# Altium footprint library TerminalBlock_WAGO.PcbLib: 170 footprints (part 1 of 11)
Each footprint in its own frame and in the unit in brackets; x right, y up, seen from the top. Pads: shape width x height; smd on the part's side, far side on the other; paste and mask are expansions set on the pad; w line width, h text height; cw(c..) or ccw(c..) is an arc to the next point about the centre after c.
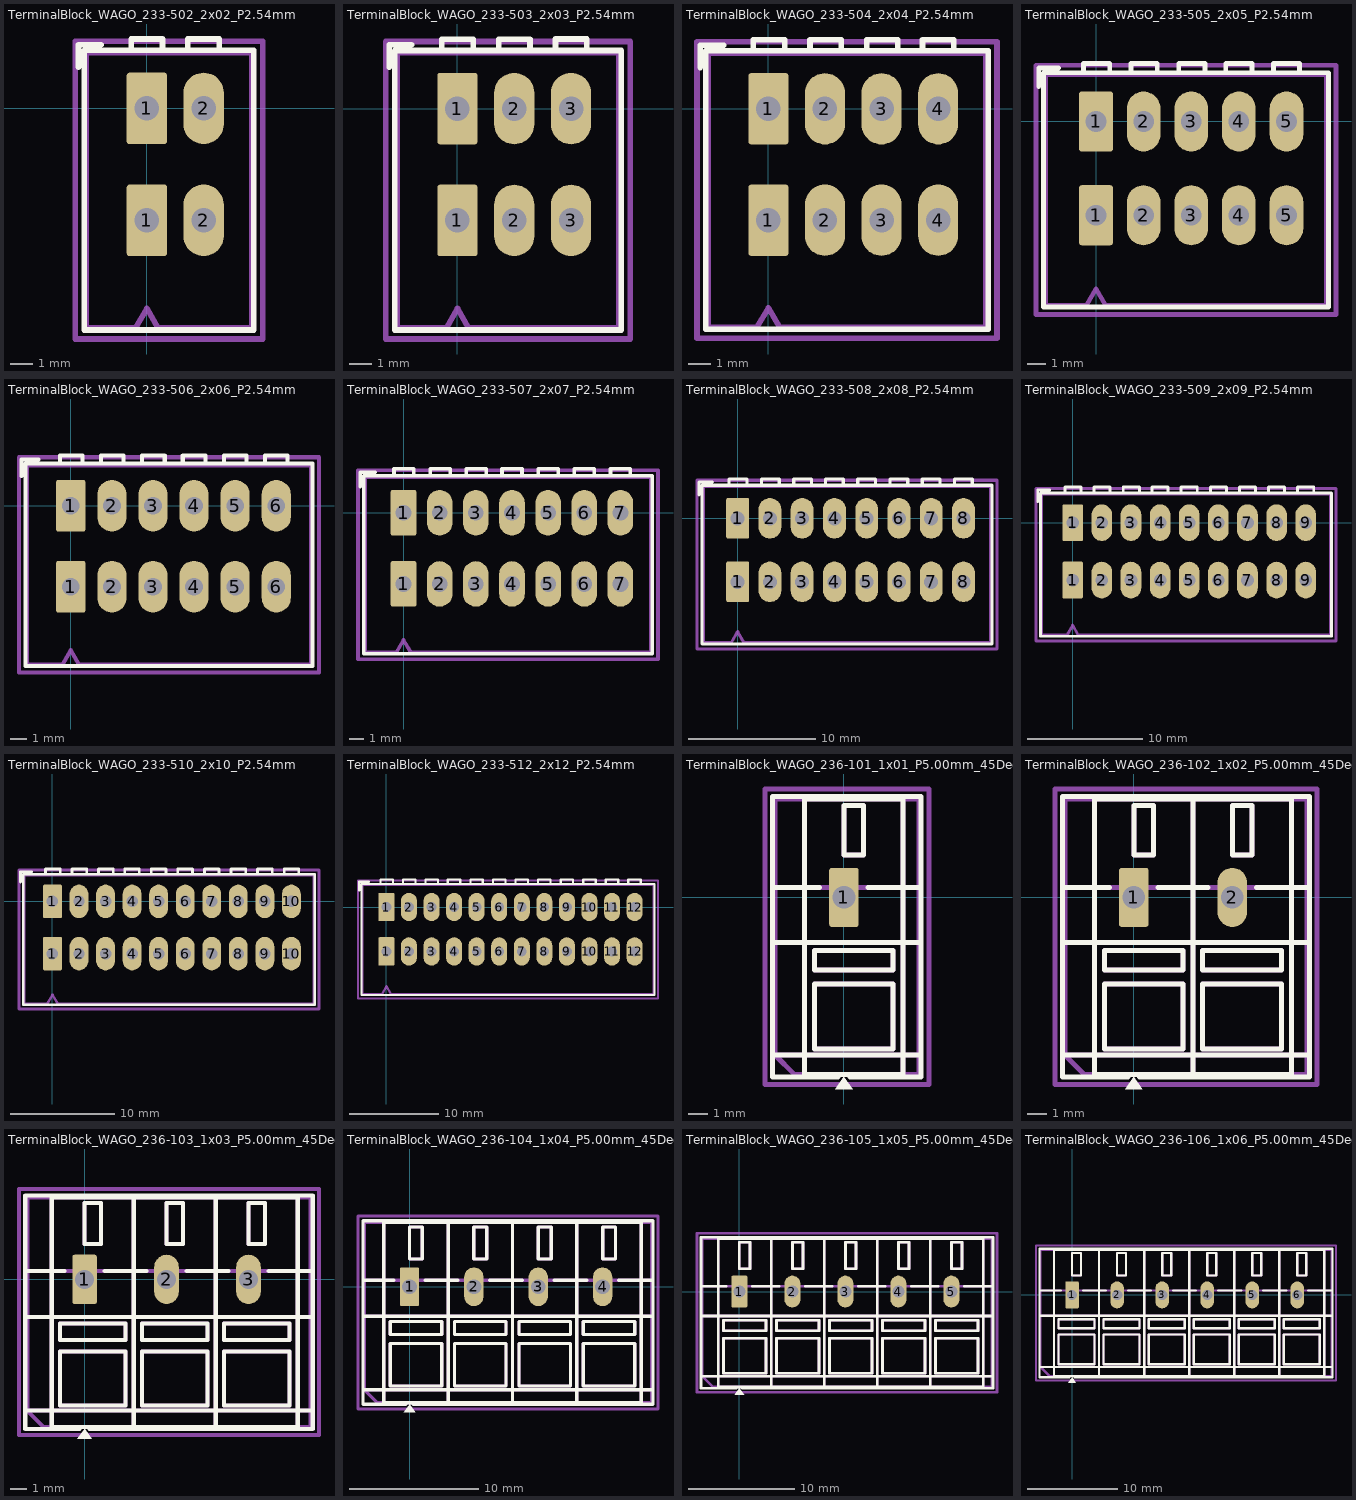
[diagram p0: the footprints below, top view; thin cyan lines are the x and y axes]

## TerminalBlock_WAGO_233-502_2x02_P2.54mm [mm]
pads (4):
  rrect14% 1.8x3.2 hole 1.1: 1(0,-5) 1(0,0)
  rrect100% 1.8x3.2 hole 1.1: 2(2.54,-5) 2(2.54,0)
F.SilkS:
  lines w0.254: -3.05,1.85 -3.05,2.85 -2.05,2.85 ; -2.8,-9.9 -2.8,2.6 4.78,2.6 4.78,-9.9 -2.8,-9.9 ; -0.7,2.6 -0.7,3.1 0.7,3.1 0.7,2.6 -0.7,2.6 ; 1.83,2.6 1.83,3.1 3.23,3.1 3.23,2.6 1.83,2.6
F.Fab:
  lines w0.254: -2.7,-9.8 -2.7,2.5 4.68,2.5 4.68,-9.8 0.5,-9.8 0,-8.93 -0.5,-9.8 -2.7,-9.8
  text "'.Designator'" at -3.147,-3.45 h1
F.CrtYd:
  lines w0.254: -3.2,-10.3 -3.2,3 5.18,3 5.18,-10.3 -3.2,-10.3

## TerminalBlock_WAGO_233-503_2x03_P2.54mm [mm]
pads (6):
  rrect14% 1.8x3.2 hole 1.1: 1(0,-5) 1(0,0)
  rrect100% 1.8x3.2 hole 1.1: 2(2.54,-5) 2(2.54,0) 3(5.08,-5) 3(5.08,0)
F.SilkS:
  lines w0.254: -3.05,1.85 -3.05,2.85 -2.05,2.85 ; -2.8,-9.9 -2.8,2.6 7.32,2.6 7.32,-9.9 -2.8,-9.9 ; -0.7,2.6 -0.7,3.1 0.7,3.1 0.7,2.6 -0.7,2.6 ; 1.84,2.6 1.84,3.1 3.24,3.1 3.24,2.6 1.84,2.6 ; 4.38,2.61 4.38,3.11 5.78,3.11 5.78,2.61 4.38,2.61
F.Fab:
  lines w0.254: -2.7,-9.8 -2.7,2.5 7.22,2.5 7.22,-9.8 0.5,-9.8 0,-8.93 -0.5,-9.8 -2.7,-9.8
  text "'.Designator'" at -2.197,-3.47 h1
F.CrtYd:
  lines w0.254: -3.2,-10.3 -3.2,3 7.72,3 7.72,-10.3 -3.2,-10.3

## TerminalBlock_WAGO_233-504_2x04_P2.54mm [mm]
pads (8):
  rrect14% 1.8x3.2 hole 1.1: 1(0,-5) 1(0,0)
  rrect100% 1.8x3.2 hole 1.1: 2(2.54,-5) 2(2.54,0) 3(5.08,-5) 3(5.08,0) 4(7.62,-5) 4(7.62,0)
F.SilkS:
  lines w0.254: -3.05,1.85 -3.05,2.85 -2,2.85 ; -2.8,-9.9 -2.8,2.6 9.86,2.6 9.86,-9.9 -2.8,-9.9 ; -0.67,2.6 -0.67,3.1 0.73,3.1 0.73,2.6 -0.67,2.6 ; 1.87,2.6 1.87,3.1 3.27,3.1 3.27,2.6 1.87,2.6 ; 4.41,2.6 4.41,3.1 5.81,3.1 5.81,2.6 4.41,2.6 ; 6.92,2.599 6.92,3.099 8.32,3.099 8.32,2.599 6.92,2.599
F.Fab:
  lines w0.254: -2.7,-9.8 -2.7,2.5 9.76,2.5 9.76,-9.8 0.5,-9.8 0,-8.93 -0.5,-9.8 -2.7,-9.8
  text "'.Designator'" at -0.517,-3.34 h1
F.CrtYd:
  lines w0.254: -3.2,-10.3 -3.2,3 10.26,3 10.26,-10.3 -3.2,-10.3

## TerminalBlock_WAGO_233-505_2x05_P2.54mm [mm]
pads (10):
  rrect14% 1.8x3.2 hole 1.1: 1(0,-5) 1(0,0)
  rrect100% 1.8x3.2 hole 1.1: 2(2.54,-5) 2(2.54,0) 3(5.08,-5) 3(5.08,0) 4(7.62,-5) 4(7.62,0) 5(10.16,-5) 5(10.16,0)
F.SilkS:
  lines w0.254: -3.05,1.85 -3.05,2.85 -2,2.85 ; -2.8,-9.9 -2.8,2.6 12.4,2.6 12.4,-9.9 -2.8,-9.9 ; -0.67,2.6 -0.67,3.1 0.73,3.1 0.73,2.6 -0.67,2.6 ; 1.87,2.6 1.87,3.1 3.27,3.1 3.27,2.6 1.87,2.6 ; 4.41,2.6 4.41,3.1 5.81,3.1 5.81,2.6 4.41,2.6 ; 6.92,2.6 6.92,3.1 8.32,3.1 8.32,2.6 6.92,2.6 ; 9.46,2.6 9.46,3.1 10.86,3.1 10.86,2.6 9.46,2.6
F.Fab:
  lines w0.254: -2.7,-9.8 -2.7,2.5 12.3,2.5 12.3,-9.8 0.5,-9.8 0,-8.93 -0.5,-9.8 -2.7,-9.8
  text "'.Designator'" at -0.517,-3.34 h1
F.CrtYd:
  lines w0.254: -3.2,-10.3 -3.2,3 12.8,3 12.8,-10.3 -3.2,-10.3

## TerminalBlock_WAGO_233-506_2x06_P2.54mm [mm]
pads (12):
  rrect14% 1.8x3.2 hole 1.1: 1(0,-5) 1(0,0)
  rrect100% 1.8x3.2 hole 1.1: 2(2.54,-5) 2(2.54,0) 3(5.08,-5) 3(5.08,0) 4(7.62,-5) 4(7.62,0) 5(10.16,-5) 5(10.16,0) 6(12.7,-5) 6(12.7,0)
F.SilkS:
  lines w0.254: -3.05,1.85 -3.05,2.85 -2,2.85 ; -2.8,-9.9 -2.8,2.6 14.94,2.6 14.94,-9.9 -2.8,-9.9 ; -0.67,2.6 -0.67,3.1 0.73,3.1 0.73,2.6 -0.67,2.6 ; 1.87,2.6 1.87,3.1 3.27,3.1 3.27,2.6 1.87,2.6 ; 4.41,2.6 4.41,3.1 5.81,3.1 5.81,2.6 4.41,2.6 ; 6.92,2.6 6.92,3.1 8.32,3.1 8.32,2.6 6.92,2.6 ; 9.46,2.601 9.46,3.101 10.86,3.101 10.86,2.601 9.46,2.601 ; 12,2.601 12,3.101 13.4,3.101 13.4,2.601 12,2.601
F.Fab:
  lines w0.254: -2.7,-9.8 -2.7,2.5 14.84,2.5 14.84,-9.8 0.5,-9.8 0,-8.93 -0.5,-9.8 -2.7,-9.8
  text "'.Designator'" at -0.517,-3.34 h1
F.CrtYd:
  lines w0.254: -3.2,-10.3 -3.2,3 15.34,3 15.34,-10.3 -3.2,-10.3

## TerminalBlock_WAGO_233-507_2x07_P2.54mm [mm]
pads (14):
  rrect14% 1.8x3.2 hole 1.1: 1(0,-5) 1(0,0)
  rrect100% 1.8x3.2 hole 1.1: 2(2.54,-5) 2(2.54,0) 3(5.08,-5) 3(5.08,0) 4(7.62,-5) 4(7.62,0) 5(10.16,-5) 5(10.16,0) 6(12.7,-5) 6(12.7,0) 7(15.24,-5) 7(15.24,0)
F.SilkS:
  lines w0.254: -3.05,1.85 -3.05,2.85 -2,2.85 ; -2.8,-9.9 -2.8,2.6 17.48,2.6 17.48,-9.9 -2.8,-9.9 ; -0.67,2.6 -0.67,3.1 0.73,3.1 0.73,2.6 -0.67,2.6 ; 1.87,2.6 1.87,3.1 3.27,3.1 3.27,2.6 1.87,2.6 ; 4.41,2.6 4.41,3.1 5.81,3.1 5.81,2.6 4.41,2.6 ; 6.92,2.6 6.92,3.1 8.32,3.1 8.32,2.6 6.92,2.6 ; 9.46,2.601 9.46,3.101 10.86,3.101 10.86,2.601 9.46,2.601 ; 12,2.601 12,3.101 13.4,3.101 13.4,2.601 12,2.601 ; 14.54,2.6 14.54,3.1 15.94,3.1 15.94,2.6 14.54,2.6
F.Fab:
  lines w0.254: -2.7,-9.8 -2.7,2.5 17.38,2.5 17.38,-9.8 0.5,-9.8 0,-8.93 -0.5,-9.8 -2.7,-9.8
  text "'.Designator'" at -0.517,-3.34 h1
F.CrtYd:
  lines w0.254: -3.2,-10.3 -3.2,3 17.88,3 17.88,-10.3 -3.2,-10.3

## TerminalBlock_WAGO_233-508_2x08_P2.54mm [mm]
pads (16):
  rrect14% 1.8x3.2 hole 1.1: 1(0,-5) 1(0,0)
  rrect100% 1.8x3.2 hole 1.1: 2(2.54,-5) 2(2.54,0) 3(5.08,-5) 3(5.08,0) 4(7.62,-5) 4(7.62,0) 5(10.16,-5) 5(10.16,0) 6(12.7,-5) 6(12.7,0) 7(15.24,-5) 7(15.24,0) 8(17.78,-5) 8(17.78,0)
F.SilkS:
  lines w0.254: -3.05,1.85 -3.05,2.85 -2,2.85 ; -2.8,-9.9 -2.8,2.6 20.02,2.6 20.02,-9.9 -2.8,-9.9 ; -0.67,2.6 -0.67,3.1 0.73,3.1 0.73,2.6 -0.67,2.6 ; 1.87,2.6 1.87,3.1 3.27,3.1 3.27,2.6 1.87,2.6 ; 4.41,2.6 4.41,3.1 5.81,3.1 5.81,2.6 4.41,2.6 ; 6.92,2.6 6.92,3.1 8.32,3.1 8.32,2.6 6.92,2.6 ; 9.46,2.601 9.46,3.101 10.86,3.101 10.86,2.601 9.46,2.601 ; 12,2.601 12,3.101 13.4,3.101 13.4,2.601 12,2.601 ; 14.54,2.6 14.54,3.1 15.94,3.1 15.94,2.6 14.54,2.6 ; 17.08,2.6 17.08,3.1 18.48,3.1 18.48,2.6 17.08,2.6
F.Fab:
  lines w0.254: -2.7,-9.8 -2.7,2.5 19.92,2.5 19.92,-9.8 0.5,-9.8 0,-8.93 -0.5,-9.8 -2.7,-9.8
  text "'.Designator'" at -0.517,-3.34 h1
F.CrtYd:
  lines w0.254: -3.2,-10.3 -3.2,3 20.42,3 20.42,-10.3 -3.2,-10.3

## TerminalBlock_WAGO_233-509_2x09_P2.54mm [mm]
pads (18):
  rrect14% 1.8x3.2 hole 1.1: 1(0,-5) 1(0,0)
  rrect100% 1.8x3.2 hole 1.1: 2(2.54,-5) 2(2.54,0) 3(5.08,-5) 3(5.08,0) 4(7.62,-5) 4(7.62,0) 5(10.16,-5) 5(10.16,0) 6(12.7,-5) 6(12.7,0) 7(15.24,-5) 7(15.24,0) 8(17.78,-5) 8(17.78,0) 9(20.32,-5) 9(20.32,0)
F.SilkS:
  lines w0.254: -3.05,1.85 -3.05,2.85 -2,2.85 ; -2.8,-9.9 -2.8,2.6 22.56,2.6 22.56,-9.9 -2.8,-9.9 ; -0.67,2.6 -0.67,3.1 0.73,3.1 0.73,2.6 -0.67,2.6 ; 1.87,2.6 1.87,3.1 3.27,3.1 3.27,2.6 1.87,2.6 ; 4.41,2.6 4.41,3.1 5.81,3.1 5.81,2.6 4.41,2.6 ; 6.92,2.6 6.92,3.1 8.32,3.1 8.32,2.6 6.92,2.6 ; 9.46,2.601 9.46,3.101 10.86,3.101 10.86,2.601 9.46,2.601 ; 12,2.601 12,3.101 13.4,3.101 13.4,2.601 12,2.601 ; 14.54,2.6 14.54,3.1 15.94,3.1 15.94,2.6 14.54,2.6 ; 17.08,2.6 17.08,3.1 18.48,3.1 18.48,2.6 17.08,2.6 ; 19.62,2.6 19.62,3.1 21.02,3.1 21.02,2.6 19.62,2.6
F.Fab:
  lines w0.254: -2.7,-9.8 -2.7,2.5 22.46,2.5 22.46,-9.8 0.5,-9.8 0,-8.93 -0.5,-9.8 -2.7,-9.8
  text "'.Designator'" at -0.517,-3.34 h1
F.CrtYd:
  lines w0.254: -3.2,-10.3 -3.2,3 22.96,3 22.96,-10.3 -3.2,-10.3

## TerminalBlock_WAGO_233-510_2x10_P2.54mm [mm]
pads (20):
  rrect14% 1.8x3.2 hole 1.1: 1(0,-5) 1(0,0)
  rrect100% 1.8x3.2 hole 1.1: 2(2.54,-5) 2(2.54,0) 3(5.08,-5) 3(5.08,0) 4(7.62,-5) 4(7.62,0) 5(10.16,-5) 5(10.16,0) 6(12.7,-5) 6(12.7,0) 7(15.24,-5) 7(15.24,0) 8(17.78,-5) 8(17.78,0) 9(20.32,-5) 9(20.32,0) 10(22.86,-5) 10(22.86,0)
F.SilkS:
  lines w0.254: -3.05,1.85 -3.05,2.85 -2,2.85 ; -2.8,-9.9 -2.8,2.6 25.1,2.6 25.1,-9.9 -2.8,-9.9 ; -0.67,2.6 -0.67,3.1 0.73,3.1 0.73,2.6 -0.67,2.6 ; 1.87,2.6 1.87,3.1 3.27,3.1 3.27,2.6 1.87,2.6 ; 4.41,2.6 4.41,3.1 5.81,3.1 5.81,2.6 4.41,2.6 ; 6.92,2.6 6.92,3.1 8.32,3.1 8.32,2.6 6.92,2.6 ; 9.46,2.601 9.46,3.101 10.86,3.101 10.86,2.601 9.46,2.601 ; 12,2.601 12,3.101 13.4,3.101 13.4,2.601 12,2.601 ; 14.54,2.6 14.54,3.1 15.94,3.1 15.94,2.6 14.54,2.6 ; 17.08,2.6 17.08,3.1 18.48,3.1 18.48,2.6 17.08,2.6 ; 19.62,2.6 19.62,3.1 21.02,3.1 21.02,2.6 19.62,2.6 ; 22.16,2.6 22.16,3.1 23.56,3.1 23.56,2.6 22.16,2.6
F.Fab:
  lines w0.254: -2.7,-9.8 -2.7,2.5 25,2.5 25,-9.8 0.5,-9.8 0,-8.93 -0.5,-9.8 -2.7,-9.8
  text "'.Designator'" at -0.517,-3.34 h1
F.CrtYd:
  lines w0.254: -3.2,-10.3 -3.2,3 25.5,3 25.5,-10.3 -3.2,-10.3

## TerminalBlock_WAGO_233-512_2x12_P2.54mm [mm]
pads (24):
  rrect14% 1.8x3.2 hole 1.1: 1(0,-5) 1(0,0)
  rrect100% 1.8x3.2 hole 1.1: 2(2.54,-5) 2(2.54,0) 3(5.08,-5) 3(5.08,0) 4(7.62,-5) 4(7.62,0) 5(10.16,-5) 5(10.16,0) 6(12.7,-5) 6(12.7,0) 7(15.24,-5) 7(15.24,0) 8(17.78,-5) 8(17.78,0) 9(20.32,-5) 9(20.32,0) 10(22.86,-5) 10(22.86,0) 11(25.4,-5) 11(25.4,0) 12(27.94,-5) 12(27.94,0)
F.SilkS:
  lines w0.254: -3.05,1.85 -3.05,2.85 -2,2.85 ; -2.8,-9.9 -2.8,2.6 30.18,2.6 30.18,-9.9 -2.8,-9.9 ; -0.67,2.6 -0.67,3.1 0.73,3.1 0.73,2.6 -0.67,2.6 ; 1.87,2.6 1.87,3.1 3.27,3.1 3.27,2.6 1.87,2.6 ; 4.41,2.6 4.41,3.1 5.81,3.1 5.81,2.6 4.41,2.6 ; 6.92,2.6 6.92,3.1 8.32,3.1 8.32,2.6 6.92,2.6 ; 9.46,2.601 9.46,3.101 10.86,3.101 10.86,2.601 9.46,2.601 ; 12,2.601 12,3.101 13.4,3.101 13.4,2.601 12,2.601 ; 14.54,2.6 14.54,3.1 15.94,3.1 15.94,2.6 14.54,2.6 ; 17.08,2.6 17.08,3.1 18.48,3.1 18.48,2.6 17.08,2.6 ; 19.62,2.6 19.62,3.1 21.02,3.1 21.02,2.6 19.62,2.6 ; 22.16,2.6 22.16,3.1 23.56,3.1 23.56,2.6 22.16,2.6 ; 24.7,2.6 24.7,3.1 26.1,3.1 26.1,2.6 24.7,2.6 ; 27.24,2.6 27.24,3.1 28.64,3.1 28.64,2.6 27.24,2.6
F.Fab:
  lines w0.254: -2.7,-9.8 -2.7,2.5 30.08,2.5 30.08,-9.8 0.5,-9.8 0,-8.93 -0.5,-9.8 -2.7,-9.8
  text "'.Designator'" at -0.517,-3.34 h1
F.CrtYd:
  lines w0.254: -3.2,-10.3 -3.2,3 30.58,3 30.58,-10.3 -3.2,-10.3

## TerminalBlock_WAGO_236-101_1x01_P5.00mm_45Degree [mm]
pads (1):
  rrect17% 1.5x3 hole 1.15: 1(0,0)
F.SilkS:
  region: 0.44,-9.73 -0.44,-9.73 0,-9.12
  lines w0.254: -3.62,-8 3.92,-8 ; -3.62,-2.3 3.92,-2.3 ; -3.62,0.5 -1.23,0.5 ; -0.3,-9.12 -3.62,-9.12 -3.62,5.12 3.92,5.12 3.92,-9.12 0.3,-9.12 ; 1.23,0.5 3.92,0.5 ; -2,-9 -2,5 3,5 3,-9 -2,-9 ; -1.5,-7.7 -1.5,-4.4 2.5,-4.4 2.5,-7.7 -1.5,-7.7 ; -1.5,-3.7 -1.5,-2.7 2.5,-2.7 2.5,-3.7 -1.5,-3.7 ; 0,2.15 0,4.65 1,4.65 1,2.15 0,2.15
F.Fab:
  lines w0.254: -3.5,-2.3 3.8,-2.3 ; -3.5,0.5 3.8,0.5 ; 3.8,-8 -3.5,-8 ; -3.5,-8 -3.5,5 3.8,5 3.8,-9 -2.5,-9 -3.5,-8 ; -2,-9 -2,5 3,5 3,-9 -2,-9 ; -1.5,-7.7 -1.5,-4.4 2.5,-4.4 2.5,-7.7 -1.5,-7.7 ; -1.5,-3.7 -1.5,-2.7 2.5,-2.7 2.5,-3.7 -1.5,-3.7 ; 0,2.15 0,4.65 1,4.65 1,2.15 0,2.15
  text "'.Designator'" at -3.897,-1.84 h1
F.CrtYd:
  lines w0.254: -4,-9.5 -4,5.5 4.31,5.5 4.31,-9.5 -4,-9.5

## TerminalBlock_WAGO_236-102_1x02_P5.00mm_45Degree [mm]
pads (2):
  rrect17% 1.5x3 hole 1.15: 1(0,0)
  rrect100% 1.5x3 hole 1.15: 2(5,0)
F.SilkS:
  region: 0.44,-9.73 -0.44,-9.73 0,-9.12
  lines w0.254: -3.62,-8 8.92,-8 ; -3.62,-2.3 8.92,-2.3 ; -3.62,0.5 -1.23,0.5 ; -0.3,-9.12 -3.62,-9.12 -3.62,5.12 8.92,5.12 8.92,-9.12 0.3,-9.12 ; 1.23,0.5 3.77,0.5 ; 6.23,0.5 8.92,0.5 ; 3,-9 3,5 ; 3,-9 -2,-9 -2,5 3,5 ; 3,-9 3,5 ; 3,-9 8,-9 8,5 3,5 ; -1.5,-7.7 -1.5,-4.4 2.5,-4.4 2.5,-7.7 -1.5,-7.7 ; -1.5,-3.7 -1.5,-2.7 2.5,-2.7 2.5,-3.7 -1.5,-3.7 ; 0,2.15 0,4.65 1,4.65 1,2.15 0,2.15 ; 3.5,-7.7 3.5,-4.4 7.5,-4.4 7.5,-7.7 3.5,-7.7 ; 3.5,-3.7 3.5,-2.7 7.5,-2.7 7.5,-3.7 3.5,-3.7 ; 5,2.15 5,4.65 6,4.65 6,2.15 5,2.15
F.Fab:
  lines w0.254: -3.5,-2.3 8.8,-2.3 ; -3.5,0.5 8.8,0.5 ; 8.8,-8 -3.5,-8 ; -3.5,-8 -3.5,5 8.8,5 8.8,-9 -2.5,-9 -3.5,-8 ; 3,-9 -2,-9 -2,5 3,5 ; 3,-9 3,5 ; 3,-9 3,5 ; 3,-9 8,-9 8,5 3,5 ; -1.5,-7.7 -1.5,-4.4 2.5,-4.4 2.5,-7.7 -1.5,-7.7 ; -1.5,-3.7 -1.5,-2.7 2.5,-2.7 2.5,-3.7 -1.5,-3.7 ; 0,2.15 0,4.65 1,4.65 1,2.15 0,2.15 ; 3.5,-7.7 3.5,-4.4 7.5,-4.4 7.5,-7.7 3.5,-7.7 ; 3.5,-3.7 3.5,-2.7 7.5,-2.7 7.5,-3.7 3.5,-3.7 ; 5,2.15 5,4.65 6,4.65 6,2.15 5,2.15
  text "'.Designator'" at -1.397,-1.84 h1
F.CrtYd:
  lines w0.254: -4,-9.5 -4,5.5 9.3,5.5 9.3,-9.5 -4,-9.5

## TerminalBlock_WAGO_236-103_1x03_P5.00mm_45Degree [mm]
pads (3):
  rrect17% 1.5x3 hole 1.15: 1(0,0)
  rrect100% 1.5x3 hole 1.15: 2(5,0) 3(10,0)
F.SilkS:
  region: 0.44,-9.73 -0.44,-9.73 0,-9.12
  lines w0.254: -3.62,-8 13.92,-8 ; -3.62,-2.3 13.92,-2.3 ; -3.62,0.5 -1.23,0.5 ; -0.3,-9.12 -3.62,-9.12 -3.62,5.12 13.92,5.12 13.92,-9.12 0.3,-9.12 ; 1.23,0.5 3.77,0.5 ; 6.23,0.5 8.77,0.5 ; 11.23,0.5 13.92,0.5 ; 3,-9 3,5 ; 3,-9 -2,-9 -2,5 3,5 ; 3,-9 3,5 ; 3,-9 8,-9 ; 3,5 8,5 ; 8,-9 8,5 ; 8,-9 8,5 ; 8,-9 13,-9 13,5 8,5 ; -1.5,-7.7 -1.5,-4.4 2.5,-4.4 2.5,-7.7 -1.5,-7.7 ; -1.5,-3.7 -1.5,-2.7 2.5,-2.7 2.5,-3.7 -1.5,-3.7 ; 0,2.15 0,4.65 1,4.65 1,2.15 0,2.15 ; 3.5,-7.7 3.5,-4.4 7.5,-4.4 7.5,-7.7 3.5,-7.7 ; 3.5,-3.7 3.5,-2.7 7.5,-2.7 7.5,-3.7 3.5,-3.7 ; 5,2.15 5,4.65 6,4.65 6,2.15 5,2.15 ; 8.5,-7.7 8.5,-4.4 12.5,-4.4 12.5,-7.7 8.5,-7.7 ; 8.5,-3.7 8.5,-2.7 12.5,-2.7 12.5,-3.7 8.5,-3.7 ; 10,2.15 10,4.65 11,4.65 11,2.15 10,2.15
F.Fab:
  lines w0.254: -3.5,-2.3 13.8,-2.3 ; -3.5,0.5 13.8,0.5 ; 13.8,-8 -3.5,-8 ; -3.5,-8 -3.5,5 13.8,5 13.8,-9 -2.5,-9 -3.5,-8 ; 3,-9 -2,-9 -2,5 3,5 ; 3,-9 3,5 ; 3,-9 3,5 ; 3,-9 8,-9 ; 3,5 8,5 ; 8,-9 8,5 ; 8,-9 8,5 ; 8,-9 13,-9 13,5 8,5 ; -1.5,-7.7 -1.5,-4.4 2.5,-4.4 2.5,-7.7 -1.5,-7.7 ; -1.5,-3.7 -1.5,-2.7 2.5,-2.7 2.5,-3.7 -1.5,-3.7 ; 0,2.15 0,4.65 1,4.65 1,2.15 0,2.15 ; 3.5,-7.7 3.5,-4.4 7.5,-4.4 7.5,-7.7 3.5,-7.7 ; 3.5,-3.7 3.5,-2.7 7.5,-2.7 7.5,-3.7 3.5,-3.7 ; 5,2.15 5,4.65 6,4.65 6,2.15 5,2.15 ; 8.5,-7.7 8.5,-4.4 12.5,-4.4 12.5,-7.7 8.5,-7.7 ; 8.5,-3.7 8.5,-2.7 12.5,-2.7 12.5,-3.7 8.5,-3.7 ; 10,2.15 10,4.65 11,4.65 11,2.15 10,2.15
  text "'.Designator'" at 1.103,-1.84 h1
F.CrtYd:
  lines w0.254: -4,-9.5 -4,5.5 14.3,5.5 14.3,-9.5 -4,-9.5

## TerminalBlock_WAGO_236-104_1x04_P5.00mm_45Degree [mm]
pads (4):
  rrect17% 1.5x3 hole 1.15: 1(0,0)
  rrect100% 1.5x3 hole 1.15: 2(5,0) 3(10,0) 4(15,0)
F.SilkS:
  region: 0.44,-9.73 -0.44,-9.73 0,-9.12
  lines w0.254: -3.62,-8 18.92,-8 ; -3.62,-2.3 18.92,-2.3 ; -3.62,0.5 -1.23,0.5 ; -0.3,-9.12 -3.62,-9.12 -3.62,5.12 18.92,5.12 18.92,-9.12 0.3,-9.12 ; 1.23,0.5 3.77,0.5 ; 6.23,0.5 8.77,0.5 ; 11.23,0.5 13.77,0.5 ; 16.23,0.5 18.92,0.5 ; 3,-9 3,5 ; 3,-9 -2,-9 -2,5 3,5 ; 3,-9 3,5 ; 3,-9 8,-9 ; 3,5 8,5 ; 8,-9 8,5 ; 8,-9 8,5 ; 8,-9 13,-9 ; 8,5 13,5 ; 13,-9 13,5 ; 13,-9 13,5 ; 13,-9 18,-9 18,5 13,5 ; -1.5,-7.7 -1.5,-4.4 2.5,-4.4 2.5,-7.7 -1.5,-7.7 ; -1.5,-3.7 -1.5,-2.7 2.5,-2.7 2.5,-3.7 -1.5,-3.7 ; 0,2.15 0,4.65 1,4.65 1,2.15 0,2.15 ; 3.5,-7.7 3.5,-4.4 7.5,-4.4 7.5,-7.7 3.5,-7.7 ; 3.5,-3.7 3.5,-2.7 7.5,-2.7 7.5,-3.7 3.5,-3.7 ; 5,2.15 5,4.65 6,4.65 6,2.15 5,2.15 ; 8.5,-7.7 8.5,-4.4 12.5,-4.4 12.5,-7.7 8.5,-7.7 ; 8.5,-3.7 8.5,-2.7 12.5,-2.7 12.5,-3.7 8.5,-3.7 ; 10,2.15 10,4.65 11,4.65 11,2.15 10,2.15 ; 13.5,-7.7 13.5,-4.4 17.5,-4.4 17.5,-7.7 13.5,-7.7 ; 13.5,-3.7 13.5,-2.7 17.5,-2.7 17.5,-3.7 13.5,-3.7 ; 15,2.15 15,4.65 16,4.65 16,2.15 15,2.15
F.Fab:
  lines w0.254: -3.5,-2.3 18.8,-2.3 ; -3.5,0.5 18.8,0.5 ; 18.8,-8 -3.5,-8 ; -3.5,-8 -3.5,5 18.8,5 18.8,-9 -2.5,-9 -3.5,-8 ; 3,-9 -2,-9 -2,5 3,5 ; 3,-9 3,5 ; 3,-9 3,5 ; 3,-9 8,-9 ; 3,5 8,5 ; 8,-9 8,5 ; 8,-9 8,5 ; 8,-9 13,-9 ; 8,5 13,5 ; 13,-9 13,5 ; 13,-9 13,5 ; 13,-9 18,-9 18,5 13,5 ; -1.5,-7.7 -1.5,-4.4 2.5,-4.4 2.5,-7.7 -1.5,-7.7 ; -1.5,-3.7 -1.5,-2.7 2.5,-2.7 2.5,-3.7 -1.5,-3.7 ; 0,2.15 0,4.65 1,4.65 1,2.15 0,2.15 ; 3.5,-7.7 3.5,-4.4 7.5,-4.4 7.5,-7.7 3.5,-7.7 ; 3.5,-3.7 3.5,-2.7 7.5,-2.7 7.5,-3.7 3.5,-3.7 ; 5,2.15 5,4.65 6,4.65 6,2.15 5,2.15 ; 8.5,-7.7 8.5,-4.4 12.5,-4.4 12.5,-7.7 8.5,-7.7 ; 8.5,-3.7 8.5,-2.7 12.5,-2.7 12.5,-3.7 8.5,-3.7 ; 10,2.15 10,4.65 11,4.65 11,2.15 10,2.15 ; 13.5,-7.7 13.5,-4.4 17.5,-4.4 17.5,-7.7 13.5,-7.7 ; 13.5,-3.7 13.5,-2.7 17.5,-2.7 17.5,-3.7 13.5,-3.7 ; 15,2.15 15,4.65 16,4.65 16,2.15 15,2.15
  text "'.Designator'" at 3.603,-1.84 h1
F.CrtYd:
  lines w0.254: -4,-9.5 -4,5.5 19.3,5.5 19.3,-9.5 -4,-9.5

## TerminalBlock_WAGO_236-105_1x05_P5.00mm_45Degree [mm]
pads (5):
  rrect17% 1.5x3 hole 1.15: 1(0,0)
  rrect100% 1.5x3 hole 1.15: 2(5,0) 3(10,0) 4(15,0) 5(20,0)
F.SilkS:
  region: 0.44,-9.73 -0.44,-9.73 0,-9.12
  lines w0.254: -3.62,-8 23.92,-8 ; -3.62,-2.3 23.92,-2.3 ; -3.62,0.5 -1.23,0.5 ; -0.3,-9.12 -3.62,-9.12 -3.62,5.12 23.92,5.12 23.92,-9.12 0.3,-9.12 ; 1.23,0.5 3.77,0.5 ; 6.23,0.5 8.77,0.5 ; 11.23,0.5 13.77,0.5 ; 16.23,0.5 18.77,0.5 ; 21.23,0.5 23.92,0.5 ; 3,-9 3,5 ; 3,-9 -2,-9 -2,5 3,5 ; 3,-9 3,5 ; 3,-9 8,-9 ; 3,5 8,5 ; 8,-9 8,5 ; 8,-9 8,5 ; 8,-9 13,-9 ; 8,5 13,5 ; 13,-9 13,5 ; 13,-9 13,5 ; 13,-9 18,-9 ; 13,5 18,5 ; 18,-9 18,5 ; 18,-9 18,5 ; 18,-9 23,-9 23,5 18,5 ; -1.5,-7.7 -1.5,-4.4 2.5,-4.4 2.5,-7.7 -1.5,-7.7 ; -1.5,-3.7 -1.5,-2.7 2.5,-2.7 2.5,-3.7 -1.5,-3.7 ; 0,2.15 0,4.65 1,4.65 1,2.15 0,2.15 ; 3.5,-7.7 3.5,-4.4 7.5,-4.4 7.5,-7.7 3.5,-7.7 ; 3.5,-3.7 3.5,-2.7 7.5,-2.7 7.5,-3.7 3.5,-3.7 ; 5,2.15 5,4.65 6,4.65 6,2.15 5,2.15 ; 8.5,-7.7 8.5,-4.4 12.5,-4.4 12.5,-7.7 8.5,-7.7 ; 8.5,-3.7 8.5,-2.7 12.5,-2.7 12.5,-3.7 8.5,-3.7 ; 10,2.15 10,4.65 11,4.65 11,2.15 10,2.15 ; 13.5,-7.7 13.5,-4.4 17.5,-4.4 17.5,-7.7 13.5,-7.7 ; 13.5,-3.7 13.5,-2.7 17.5,-2.7 17.5,-3.7 13.5,-3.7 ; 15,2.15 15,4.65 16,4.65 16,2.15 15,2.15 ; 18.5,-7.7 18.5,-4.4 22.5,-4.4 22.5,-7.7 18.5,-7.7 ; 18.5,-3.7 18.5,-2.7 22.5,-2.7 22.5,-3.7 18.5,-3.7 ; 20,2.15 20,4.65 21,4.65 21,2.15 20,2.15
F.Fab:
  lines w0.254: -3.5,-2.3 23.8,-2.3 ; -3.5,0.5 23.8,0.5 ; 23.8,-8 -3.5,-8 ; -3.5,-8 -3.5,5 23.8,5 23.8,-9 -2.5,-9 -3.5,-8 ; 3,-9 -2,-9 -2,5 3,5 ; 3,-9 3,5 ; 3,-9 3,5 ; 3,-9 8,-9 ; 3,5 8,5 ; 8,-9 8,5 ; 8,-9 8,5 ; 8,-9 13,-9 ; 8,5 13,5 ; 13,-9 13,5 ; 13,-9 13,5 ; 13,-9 18,-9 ; 13,5 18,5 ; 18,-9 18,5 ; 18,-9 18,5 ; 18,-9 23,-9 23,5 18,5 ; -1.5,-7.7 -1.5,-4.4 2.5,-4.4 2.5,-7.7 -1.5,-7.7 ; -1.5,-3.7 -1.5,-2.7 2.5,-2.7 2.5,-3.7 -1.5,-3.7 ; 0,2.15 0,4.65 1,4.65 1,2.15 0,2.15 ; 3.5,-7.7 3.5,-4.4 7.5,-4.4 7.5,-7.7 3.5,-7.7 ; 3.5,-3.7 3.5,-2.7 7.5,-2.7 7.5,-3.7 3.5,-3.7 ; 5,2.15 5,4.65 6,4.65 6,2.15 5,2.15 ; 8.5,-7.7 8.5,-4.4 12.5,-4.4 12.5,-7.7 8.5,-7.7 ; 8.5,-3.7 8.5,-2.7 12.5,-2.7 12.5,-3.7 8.5,-3.7 ; 10,2.15 10,4.65 11,4.65 11,2.15 10,2.15 ; 13.5,-7.7 13.5,-4.4 17.5,-4.4 17.5,-7.7 13.5,-7.7 ; 13.5,-3.7 13.5,-2.7 17.5,-2.7 17.5,-3.7 13.5,-3.7 ; 15,2.15 15,4.65 16,4.65 16,2.15 15,2.15 ; 18.5,-7.7 18.5,-4.4 22.5,-4.4 22.5,-7.7 18.5,-7.7 ; 18.5,-3.7 18.5,-2.7 22.5,-2.7 22.5,-3.7 18.5,-3.7 ; 20,2.15 20,4.65 21,4.65 21,2.15 20,2.15
  text "'.Designator'" at 6.103,-1.84 h1
F.CrtYd:
  lines w0.254: -4,-9.5 -4,5.5 24.3,5.5 24.3,-9.5 -4,-9.5

## TerminalBlock_WAGO_236-106_1x06_P5.00mm_45Degree [mm]
pads (6):
  rrect17% 1.5x3 hole 1.15: 1(0,0)
  rrect100% 1.5x3 hole 1.15: 2(5,0) 3(10,0) 4(15,0) 5(20,0) 6(25,0)
F.SilkS:
  region: 0.44,-9.73 -0.44,-9.73 0,-9.12
  lines w0.254: -3.62,-8 28.92,-8 ; -3.62,-2.3 28.92,-2.3 ; -3.62,0.5 -1.23,0.5 ; -0.3,-9.12 -3.62,-9.12 -3.62,5.12 28.92,5.12 28.92,-9.12 0.3,-9.12 ; 1.23,0.5 3.77,0.5 ; 6.23,0.5 8.77,0.5 ; 11.23,0.5 13.77,0.5 ; 16.23,0.5 18.77,0.5 ; 21.23,0.5 23.77,0.5 ; 26.23,0.5 28.92,0.5 ; 3,-9 3,5 ; 3,-9 -2,-9 -2,5 3,5 ; 3,-9 3,5 ; 3,-9 8,-9 ; 3,5 8,5 ; 8,-9 8,5 ; 8,-9 8,5 ; 8,-9 13,-9 ; 8,5 13,5 ; 13,-9 13,5 ; 13,-9 13,5 ; 13,-9 18,-9 ; 13,5 18,5 ; 18,-9 18,5 ; 18,-9 18,5 ; 18,-9 23,-9 ; 18,5 23,5 ; 23,-9 23,5 ; 23,-9 23,5 ; 23,-9 28,-9 28,5 23,5 ; -1.5,-7.7 -1.5,-4.4 2.5,-4.4 2.5,-7.7 -1.5,-7.7 ; -1.5,-3.7 -1.5,-2.7 2.5,-2.7 2.5,-3.7 -1.5,-3.7 ; 0,2.15 0,4.65 1,4.65 1,2.15 0,2.15 ; 3.5,-7.7 3.5,-4.4 7.5,-4.4 7.5,-7.7 3.5,-7.7 ; 3.5,-3.7 3.5,-2.7 7.5,-2.7 7.5,-3.7 3.5,-3.7 ; 5,2.15 5,4.65 6,4.65 6,2.15 5,2.15 ; 8.5,-7.7 8.5,-4.4 12.5,-4.4 12.5,-7.7 8.5,-7.7 ; 8.5,-3.7 8.5,-2.7 12.5,-2.7 12.5,-3.7 8.5,-3.7 ; 10,2.15 10,4.65 11,4.65 11,2.15 10,2.15 ; 13.5,-7.7 13.5,-4.4 17.5,-4.4 17.5,-7.7 13.5,-7.7 ; 13.5,-3.7 13.5,-2.7 17.5,-2.7 17.5,-3.7 13.5,-3.7 ; 15,2.15 15,4.65 16,4.65 16,2.15 15,2.15 ; 18.5,-7.7 18.5,-4.4 22.5,-4.4 22.5,-7.7 18.5,-7.7 ; 18.5,-3.7 18.5,-2.7 22.5,-2.7 22.5,-3.7 18.5,-3.7 ; 20,2.15 20,4.65 21,4.65 21,2.15 20,2.15 ; 23.5,-7.7 23.5,-4.4 27.5,-4.4 27.5,-7.7 23.5,-7.7 ; 23.5,-3.7 23.5,-2.7 27.5,-2.7 27.5,-3.7 23.5,-3.7 ; 25,2.15 25,4.65 26,4.65 26,2.15 25,2.15
F.Fab:
  lines w0.254: -3.5,-2.3 28.8,-2.3 ; -3.5,0.5 28.8,0.5 ; 28.8,-8 -3.5,-8 ; -3.5,-8 -3.5,5 28.8,5 28.8,-9 -2.5,-9 -3.5,-8 ; 3,-9 -2,-9 -2,5 3,5 ; 3,-9 3,5 ; 3,-9 3,5 ; 3,-9 8,-9 ; 3,5 8,5 ; 8,-9 8,5 ; 8,-9 8,5 ; 8,-9 13,-9 ; 8,5 13,5 ; 13,-9 13,5 ; 13,-9 13,5 ; 13,-9 18,-9 ; 13,5 18,5 ; 18,-9 18,5 ; 18,-9 18,5 ; 18,-9 23,-9 ; 18,5 23,5 ; 23,-9 23,5 ; 23,-9 23,5 ; 23,-9 28,-9 28,5 23,5 ; -1.5,-7.7 -1.5,-4.4 2.5,-4.4 2.5,-7.7 -1.5,-7.7 ; -1.5,-3.7 -1.5,-2.7 2.5,-2.7 2.5,-3.7 -1.5,-3.7 ; 0,2.15 0,4.65 1,4.65 1,2.15 0,2.15 ; 3.5,-7.7 3.5,-4.4 7.5,-4.4 7.5,-7.7 3.5,-7.7 ; 3.5,-3.7 3.5,-2.7 7.5,-2.7 7.5,-3.7 3.5,-3.7 ; 5,2.15 5,4.65 6,4.65 6,2.15 5,2.15 ; 8.5,-7.7 8.5,-4.4 12.5,-4.4 12.5,-7.7 8.5,-7.7 ; 8.5,-3.7 8.5,-2.7 12.5,-2.7 12.5,-3.7 8.5,-3.7 ; 10,2.15 10,4.65 11,4.65 11,2.15 10,2.15 ; 13.5,-7.7 13.5,-4.4 17.5,-4.4 17.5,-7.7 13.5,-7.7 ; 13.5,-3.7 13.5,-2.7 17.5,-2.7 17.5,-3.7 13.5,-3.7 ; 15,2.15 15,4.65 16,4.65 16,2.15 15,2.15 ; 18.5,-7.7 18.5,-4.4 22.5,-4.4 22.5,-7.7 18.5,-7.7 ; 18.5,-3.7 18.5,-2.7 22.5,-2.7 22.5,-3.7 18.5,-3.7 ; 20,2.15 20,4.65 21,4.65 21,2.15 20,2.15 ; 23.5,-7.7 23.5,-4.4 27.5,-4.4 27.5,-7.7 23.5,-7.7 ; 23.5,-3.7 23.5,-2.7 27.5,-2.7 27.5,-3.7 23.5,-3.7 ; 25,2.15 25,4.65 26,4.65 26,2.15 25,2.15
  text "'.Designator'" at 8.603,-1.84 h1
F.CrtYd:
  lines w0.254: -4,-9.5 -4,5.5 29.3,5.5 29.3,-9.5 -4,-9.5